# Altium schematic symbol library CPDT6-5V0UPC-HF.SchLib: 1 symbol
Pins are listed as number, name and electrical type; pins without a type are passive.

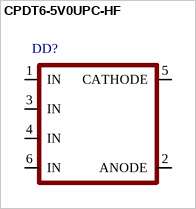
[diagram p0: symbol CPDT6-5V0UPC-HF]

## CPDT6-5V0UPC-HF
designator DD?
pins: 1 IN, 2 ANODE, 3 IN, 4 IN, 5 CATHODE, 6 IN